# Altium footprint library MODULE_ABX00027.PcbLib: 1 footprints
Each footprint in its own frame and in the unit in brackets; x right, y up, seen from the top. Pads: shape width x height; smd on the part's side, far side on the other; paste and mask are expansions set on the pad; w line width, h text height; cw(c..) or ccw(c..) is an arc to the next point about the centre after c.
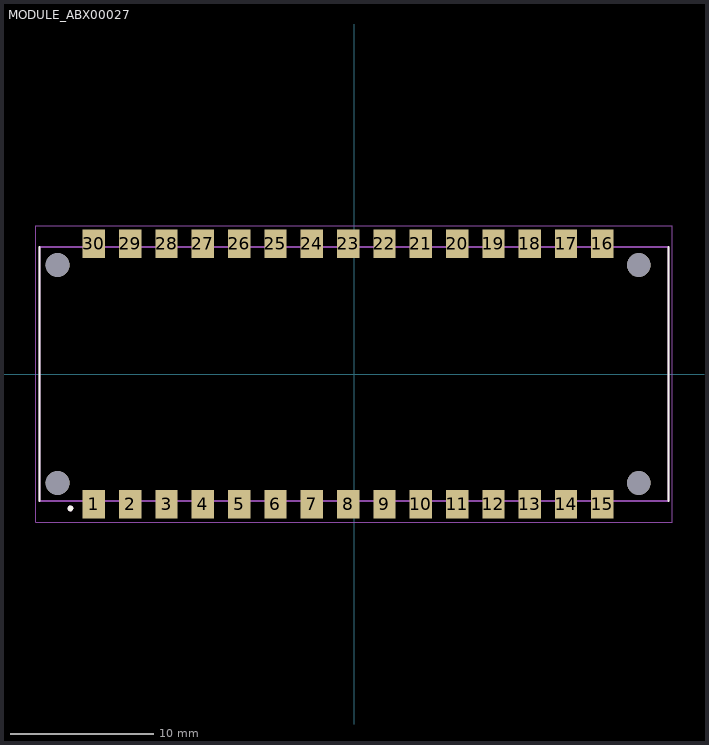
[diagram p0: the footprint, top view; thin cyan lines are the x and y axes]

## MODULE_ABX00027 [mm]
pads (34):
  rect 1.56x2 smd: 1(-18.19,-9.1) 2(-15.65,-9.1) 3(-13.11,-9.1) 4(-10.57,-9.1) 5(-8.03,-9.1) 6(-5.49,-9.1) 7(-2.95,-9.1) 8(-0.41,-9.1) 9(2.13,-9.1) 10(4.67,-9.1) 11(7.21,-9.1) 12(9.75,-9.1) 13(12.29,-9.1) 14(14.83,-9.1) 15(17.37,-9.1) 16(17.37,9.1) 17(14.83,9.1) 18(12.29,9.1) 19(9.75,9.1) 20(7.21,9.1) 21(4.67,9.1) 22(2.13,9.1) 23(-0.41,9.1) 24(-2.95,9.1) 25(-5.49,9.1) 26(-8.03,9.1) 27(-10.57,9.1) 28(-13.11,9.1) 29(-15.65,9.1) 30(-18.19,9.1)
  round 1.651 hole 1.651 unplated: ""(-20.73,-7.62) ""(-20.73,7.62) ""(19.91,-7.62) ""(19.91,7.62)
Top Overlay:
  circle w0.2: c-19.83,-9.4 r0.1
  lines w0.127: -22,-8.89 -22,8.89 ; 22,-8.89 22,8.89
Mechanical 13:
  circle w0.2: c-19.83,-9.4 r0.1
  lines w0.127: -22,-8.89 22,-8.89 22,8.89 -22,8.89 ; -22,-8.89 -22,8.89 ; -22,-8.89 -22,8.89
Mechanical 15:
  lines w0.05: -22.25,-10.35 22.25,-10.35 22.25,10.35 -22.25,10.35 -22.25,-10.35